# Altium schematic symbol library Diode_LED.Schlib: 1 symbol
Pins are listed as number, name and electrical type; pins without a type are passive.

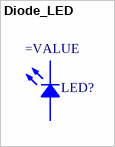
[diagram p0: symbol Diode_LED]

## Diode_LED
designator LED?
Light Emitting Diode (LED)
pins: 1, 2